# EAGLE library part TFTDISPLAYS_ILI9341-2.4 (library new_esplay)
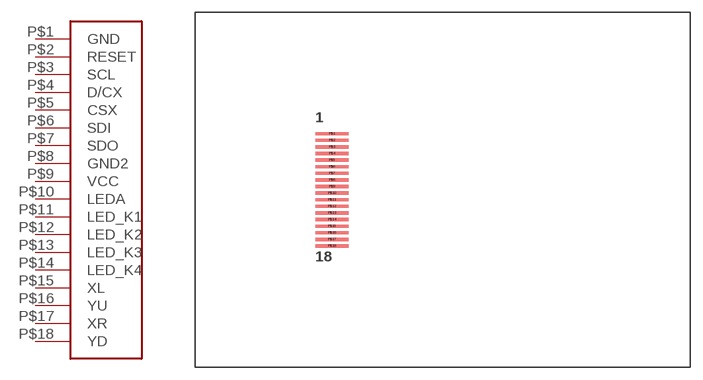
[diagram p6: symbol with the pads of TFTDISPLAYS_ILI9341-2.4; footprint TFTDISPLAYS_ILI9341-2.4]

Designator prefix LCD

## TFTDISPLAYS_ILI9341-2.4  [TFTDISPLAYS_ILI9341-2.4]
P$1  GND
P$2  RESET
P$3  SCL
P$4  D/CX
P$5  CSX
P$6  SDI
P$7  SDO
P$8  GND2
P$9  VCC
P$10  LEDA
P$11  LED_K1
P$12  LED_K2
P$13  LED_K3
P$14  LED_K4
P$15  XL
P$16  YU
P$17  XR
P$18  YD

## Footprint TFTDISPLAYS_ILI9341-2.4 (pad centres in mm)
TFT Displays - 2.4 Inch connector for ili9341 screens with SPI interface
smd 4 x 0.4: P$1 -13.4,6.8; P$2 -13.4,6; P$3 -13.4,5.2; P$4 -13.4,4.4; P$5 -13.4,3.6; P$6 -13.4,2.8; P$7 -13.4,2; P$8 -13.4,1.2; P$9 -13.4,0.4; P$10 -13.4,-0.4; P$11 -13.4,-1.2; P$12 -13.4,-2; P$13 -13.4,-2.8; P$14 -13.4,-3.6; P$15 -13.4,-4.4; P$16 -13.4,-5.2; P$17 -13.4,-6; P$18 -13.4,-6.8